# Altium schematic symbol library 3568.SchLib: 1 symbol
Pins are listed as number, name and electrical type; pins without a type are passive.

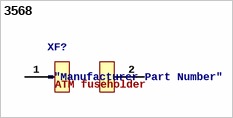
[diagram p0: symbol 3568]

## 3568
designator XF?
Fuse Holder 30 A 500V 1 Circuit Blade Through Hole
pins: 1, 2
text: ATM fuseholder